# Altium schematic symbol library LMZM23600V5SILR.SchLib: 1 symbol
Pins are listed as number, name and electrical type; pins without a type are passive.

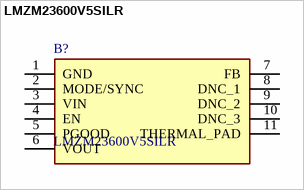
[diagram p0: symbol LMZM23600V5SILR]

## LMZM23600V5SILR
designator B?
36-V, 0.5-A Step-Down DC/DC Power Module in 3.8-mm  3-mm Package; Manufacturer_Name: Texas Instruments; Geometry.Height: 1mm; Mouser Part Number: 595-LMZM23600V5SILR; Mouser Price/Stock: https://www.mouser.co.uk/ProductDetail/Texas-Instruments/LMZM23600V5SILR?qs=55YtniHzbhCRfZgYPiZvxw%3D%3D; Manufacturer_Part_Number: LMZM23600V5SILR; Datasheet Link: http://www.ti.com/lit/gpn/lmzm23600
footprint LMZM23601V5SILR
pins: 1 GND, 2 MODE/SYNC, 3 VIN, 4 EN, 5 PGOOD, 6 VOUT, 7 FB, 8 DNC_1, 9 DNC_2, 10 DNC_3, 11 THERMAL_PAD